# EAGLE library part MC14585 (library parts)
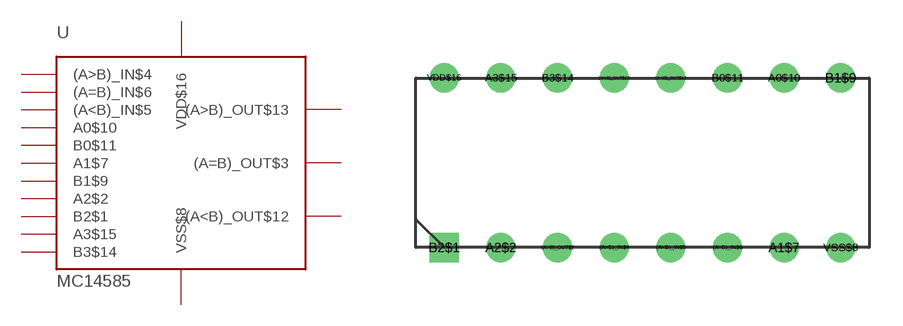
[diagram p0: symbol with the pads of PDIP-16; footprint PDIP-16]

Designator prefix -

## MC14585  [PDIP-16]
(A<B)_IN$5  (A<B)_IN$5
(A<B)_OUT$12  (A<B)_OUT$12
(A=B)_IN$6  (A=B)_IN$6
(A=B)_OUT$3  (A=B)_OUT$3
(A>B)_IN$4  (A>B)_IN$4
(A>B)_OUT$13  (A>B)_OUT$13
A0$10  A0$10
A1$7  A1$7
A2$2  A2$2
A3$15  A3$15
B0$11  B0$11
B1$9  B1$9
B2$1  B2$1
B3$14  B3$14
VDD$16  VDD$16
VSS$8  VSS$8

## Footprint PDIP-16 (pad centres in mm)
drill 0.8 round: (A<B)_IN$5 1.27,-3.81; (A<B)_OUT$12 1.27,3.81; (A=B)_IN$6 3.81,-3.81; (A=B)_OUT$3 -3.81,-3.81; (A>B)_IN$4 -1.27,-3.81; (A>B)_OUT$13 -1.27,3.81; A0$10 6.35,3.81; A1$7 6.35,-3.81; A2$2 -6.35,-3.81; A3$15 -6.35,3.81; B0$11 3.81,3.81; B1$9 8.89,3.81; B3$14 -3.81,3.81; VDD$16 -8.89,3.81; VSS$8 8.89,-3.81
drill 0.8 square: B2$1 -8.89,-3.81